# Altium integrated library Linear Technology Power Management PMIC Multifunction.IntLib: 360 symbols (part 8 of 42)
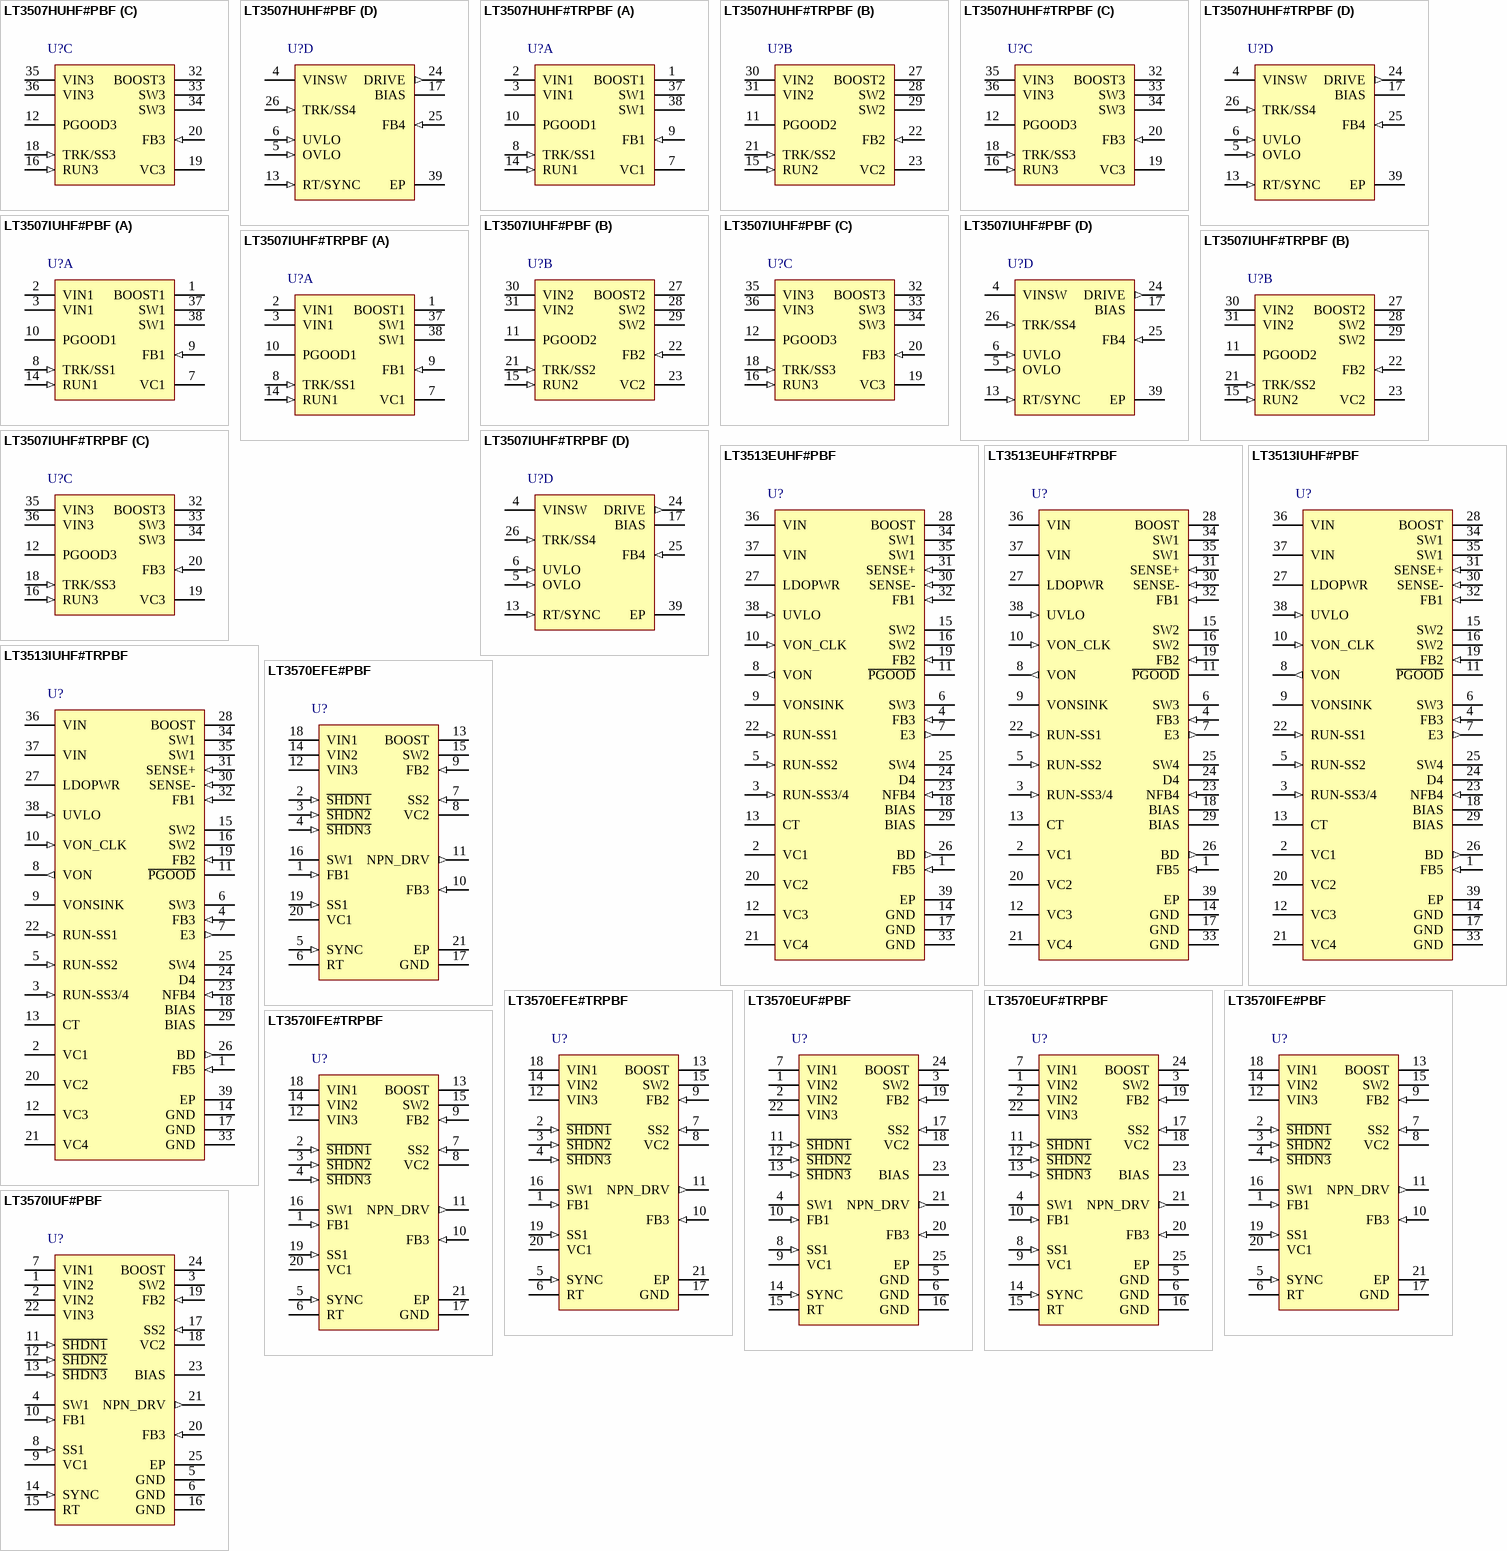
[diagram p25: symbols LT3507HUHF#PBF to LT3570IUF#PBF]

## LT3570EUF#PBF
designator U?
1.5 A Buck Converter, 1.5 A Boost Converter and LDO Controller, 2.5 to 36 V Vin, 24-pin QFN (UF-24), -40 to 125 degC, Pb-Free; Manufacturer: Linear Technology; PartNumber: LT3570EUF#PBF; Number of Outputs: 2; Vin Max(V): 36; Vin Min(V): 2.5; DatasheetVersion: Rev. B; PackageVersion: Rev. B, 02/2012; PackageReference: UF24; PackageDescription: 24-Pin Plastic QFN, Body 4 x 4 mm, Pitch 0.5 mm; Supplier 1: Digi-Key; Supplier Part Number 1: LT3570EUF#PBF-ND; Supplier 2: Newark; Supplier Part Number 2: 19P9369; RoHS: TRUE; Mounting Technology: Surface Mount; Code_JEDEC: MO-220; ComponentLink1Description: Manufacturer URL; ComponentLink1URL: http://www.linear.com/; ComponentLink2Description: Datasheet; ComponentLink2URL: http://cds.linear.com/docs/en/datasheet/3570fb.pdf; ComponentLink3Description: Package Specification; ComponentLink3URL: http://cds.linear.com/docs/en/packaging/%28UF24%29%20QFN%2005-08-1697%20Rev%20B.pdf
footprint LT-UF-24_N (QFN, 24-Leads, Body 4.1x4.1mm, Pitch 0.5mm, Thermal Pad 2.45x2.45mm, IPC Medium Density)
footprint LT-UF-24_L (QFN, 24-Leads, Body 4.1x4.1mm, Pitch 0.5mm, Thermal Pad 2.45x2.45mm, IPC High Density)
footprint LT-UF-24_M (QFN, 24-Leads, Body 4.1x4.1mm, Pitch 0.5mm, Thermal Pad 2.45x2.45mm, IPC Low Density)
pins: 1 VIN2 (power) "Input Voltage for the Buck Regulator. This pin also supplies the current to the internal circuitry of the LT3570. This pin must be locally bypassed with a capacitor.", 2 VIN2 (power) "Input Voltage for the Buck Regulator. This pin also supplies the current to the internal circuitry of the LT3570. This pin must be locally bypassed with a capacitor.", 3 SW2 (power) "Switch Node. This pin connects to the emitter of an internal NPN power switch. Connect a diode, inductor and boost capacitor to this pin to form the buck regulator.", 4 SW1 (power) "Switch Node. This pin connects to the collector of an internal NPN power switch. Connect a diode and inductor to this pin to form the boost regulator.", 5 GND (power) "Ground. The Exposed Pad of the package provides both electrical contact to ground and good thermal contact to the printed circuit board. The Exposed Pad must be soldered to the circuit board for proper operation.", 6 GND (power) "Ground. The Exposed Pad of the package provides both electrical contact to ground and good thermal contact to the printed circuit board. The Exposed Pad must be soldered to the circuit board for proper operation.", 7 VIN1 (power) "Input Voltage for the Boost Regulator. This pin supplies current to drive the boost NPN transistor of the LT3570. This pin must be locally bypassed with a capacitor.", 8 SS1 (in) "Soft-Start Pin. Place a soft-start capacitor here. Upon start-up, a current charges the capacitor to 2V. This pin ramps the reference voltage of the boost switcher.", 9 VC1 "Control Voltage and Compensation Pin for the Internal Error Amplifier. Connect a series RC from this pin to ground to compensate the switching regulator loop for the boost regulator.", 10 FB1 (in) "Feedback Pin. The LT3570 regulates this pin to 788mV. Connect the feedback resistors to this pin to set the output voltage for the boost switching regulator.", 11 ~{SHDN1} (in) "Shutdown Pin. Tie to 1.4V or more to enable the boost switcher. Tie all S\H\D\N\ pins to 0.3V or less to shutdown the part.", 12 ~{SHDN2} (in) "Shutdown Pin. Tie to 1.4V or more to enable the boost switcher. Tie all S\H\D\N\ pins to 0.3V or less to shutdown the part.", 13 ~{SHDN3} (in) "Shutdown Pin. Tie to 1.5V or more to enable the boost switcher. Tie all S\H\D\N\ pins to 0.3V or less to shutdown the part.", 14 SYNC (in) "Synchronization Pin. The SYNC pin is used to synchronize the internal oscillator to an external signal. The synchronizing range is equal to the initial operating frequency set by the RT pin up to 1.3 times the initial (See Datasheet)", 15 RT "Frequency Set Pin. Place a resistor to GND to set the internal frequency. The range of oscillation is 500kHz to 2MHz.", 16 GND (power) "Ground. The Exposed Pad of the package provides both electrical contact to ground and good thermal contact to the printed circuit board. The Exposed Pad must be soldered to the circuit board for proper operation.", 17 SS2 (in) "Soft-Start Pin. Place a soft-start capacitor here. Upon start-up, a current charges the capacitor to 2V. This pin ramps the reference voltage of the buck switcher", 18 VC2 "Control Voltage and Compensation Pin for the Internal Error Amplifier. Connect a series RC from this pin to ground to compensate the switching regulator loop for the buck regulator.", 19 FB2 (in) "Feedback Pin. The LT3570 regulates this pin to 788mV. Connect the feedback resistors to this pin to set the output voltage for the buck switching regulator.", 20 FB3 (in) "Feedback Pin. The LT3570 regulates this pin to 788mV. Connect the feedback resistors to this pin to set the output voltage for the LDO controller.", 21 NPN_DRV (out) "Base Drive for the External NPN. This pin provides a bias current to drive the base of the NPN. This base current is driven from the IN3 supply voltage.", 22 VIN3 (power) "Input Voltage for the NPN LDO. This pin supplies current to drive the base of the NPN. This pin must be locally bypassed with a capacitor.", 23 BIAS (power) "QFN Package Only. This pin supplies current to the internal circuitry of the LT3570 if greater than 2.5V. This pin must be locally bypassed with a capacitor.", 24 BOOST "Bias for the Base Drive of the NPN Switch for the Buck Regulator. This pin provides a bias voltage higher than VIN2. The voltage on this pin is charged up through an external Schottky diode.", 25 EP (power) "The Exposed Pad must be soldered to the circuit board for proper operation."

## LT3570EUF#TRPBF
designator U?
1.5 A Buck Converter, 1.5 A Boost Converter and LDO Controller, 2.5 to 36 V Vin, 24-pin QFN (UF-24), -40 to 125 degC, Pb-Free, Tape and Reel; Manufacturer: Linear Technology; PartNumber: LT3570EUF#TRPBF; Number of Outputs: 2; Vin Max(V): 36; Vin Min(V): 2.5; DatasheetVersion: Rev. B; PackageVersion: Rev. B, 02/2012; PackageReference: UF24; PackageDescription: 24-Pin Plastic QFN, Body 4 x 4 mm, Pitch 0.5 mm; Supplier 1: Digi-Key; Supplier Part Number 1: LT3570EUF#TRPBF-ND; Packing: Tape and Reel; RoHS: TRUE; Mounting Technology: Surface Mount; Code_JEDEC: MO-220; ComponentLink1Description: Manufacturer URL; ComponentLink1URL: http://www.linear.com/; ComponentLink2Description: Datasheet; ComponentLink2URL: http://cds.linear.com/docs/en/datasheet/3570fb.pdf; ComponentLink3Description: Package Specification; ComponentLink3URL: http://cds.linear.com/docs/en/packaging/%28UF24%29%20QFN%2005-08-1697%20Rev%20B.pdf
footprint LT-UF-24_N (QFN, 24-Leads, Body 4.1x4.1mm, Pitch 0.5mm, Thermal Pad 2.45x2.45mm, IPC Medium Density)
footprint LT-UF-24_L (QFN, 24-Leads, Body 4.1x4.1mm, Pitch 0.5mm, Thermal Pad 2.45x2.45mm, IPC High Density)
footprint LT-UF-24_M (QFN, 24-Leads, Body 4.1x4.1mm, Pitch 0.5mm, Thermal Pad 2.45x2.45mm, IPC Low Density)
pins: 1 VIN2 (power) "Input Voltage for the Buck Regulator. This pin also supplies the current to the internal circuitry of the LT3570. This pin must be locally bypassed with a capacitor.", 2 VIN2 (power) "Input Voltage for the Buck Regulator. This pin also supplies the current to the internal circuitry of the LT3570. This pin must be locally bypassed with a capacitor.", 3 SW2 (power) "Switch Node. This pin connects to the emitter of an internal NPN power switch. Connect a diode, inductor and boost capacitor to this pin to form the buck regulator.", 4 SW1 (power) "Switch Node. This pin connects to the collector of an internal NPN power switch. Connect a diode and inductor to this pin to form the boost regulator.", 5 GND (power) "Ground. The Exposed Pad of the package provides both electrical contact to ground and good thermal contact to the printed circuit board. The Exposed Pad must be soldered to the circuit board for proper operation.", 6 GND (power) "Ground. The Exposed Pad of the package provides both electrical contact to ground and good thermal contact to the printed circuit board. The Exposed Pad must be soldered to the circuit board for proper operation.", 7 VIN1 (power) "Input Voltage for the Boost Regulator. This pin supplies current to drive the boost NPN transistor of the LT3570. This pin must be locally bypassed with a capacitor.", 8 SS1 (in) "Soft-Start Pin. Place a soft-start capacitor here. Upon start-up, a current charges the capacitor to 2V. This pin ramps the reference voltage of the boost switcher.", 9 VC1 "Control Voltage and Compensation Pin for the Internal Error Amplifier. Connect a series RC from this pin to ground to compensate the switching regulator loop for the boost regulator.", 10 FB1 (in) "Feedback Pin. The LT3570 regulates this pin to 788mV. Connect the feedback resistors to this pin to set the output voltage for the boost switching regulator.", 11 ~{SHDN1} (in) "Shutdown Pin. Tie to 1.4V or more to enable the boost switcher. Tie all S\H\D\N\ pins to 0.3V or less to shutdown the part.", 12 ~{SHDN2} (in) "Shutdown Pin. Tie to 1.4V or more to enable the boost switcher. Tie all S\H\D\N\ pins to 0.3V or less to shutdown the part.", 13 ~{SHDN3} (in) "Shutdown Pin. Tie to 1.5V or more to enable the boost switcher. Tie all S\H\D\N\ pins to 0.3V or less to shutdown the part.", 14 SYNC (in) "Synchronization Pin. The SYNC pin is used to synchronize the internal oscillator to an external signal. The synchronizing range is equal to the initial operating frequency set by the RT pin up to 1.3 times the initial (See Datasheet)", 15 RT "Frequency Set Pin. Place a resistor to GND to set the internal frequency. The range of oscillation is 500kHz to 2MHz.", 16 GND (power) "Ground. The Exposed Pad of the package provides both electrical contact to ground and good thermal contact to the printed circuit board. The Exposed Pad must be soldered to the circuit board for proper operation.", 17 SS2 (in) "Soft-Start Pin. Place a soft-start capacitor here. Upon start-up, a current charges the capacitor to 2V. This pin ramps the reference voltage of the buck switcher", 18 VC2 "Control Voltage and Compensation Pin for the Internal Error Amplifier. Connect a series RC from this pin to ground to compensate the switching regulator loop for the buck regulator.", 19 FB2 (in) "Feedback Pin. The LT3570 regulates this pin to 788mV. Connect the feedback resistors to this pin to set the output voltage for the buck switching regulator.", 20 FB3 (in) "Feedback Pin. The LT3570 regulates this pin to 788mV. Connect the feedback resistors to this pin to set the output voltage for the LDO controller.", 21 NPN_DRV (out) "Base Drive for the External NPN. This pin provides a bias current to drive the base of the NPN. This base current is driven from the IN3 supply voltage.", 22 VIN3 (power) "Input Voltage for the NPN LDO. This pin supplies current to drive the base of the NPN. This pin must be locally bypassed with a capacitor.", 23 BIAS (power) "QFN Package Only. This pin supplies current to the internal circuitry of the LT3570 if greater than 2.5V. This pin must be locally bypassed with a capacitor.", 24 BOOST "Bias for the Base Drive of the NPN Switch for the Buck Regulator. This pin provides a bias voltage higher than VIN2. The voltage on this pin is charged up through an external Schottky diode.", 25 EP (power) "The Exposed Pad must be soldered to the circuit board for proper operation."

## LT3570IFE#PBF
designator U?
1.5 A Buck Converter, 1.5 A Boost Converter and LDO Controller, 2.5 to 36 V Vin, 20-pin SOP (FE-20-EPV-CB), -40 to 125 degC, Pb-Free; Manufacturer: Linear Technology; PartNumber: LT3570IFE#PBF; Number of Outputs: 2; Vin Max(V): 36; Vin Min(V): 2.5; DatasheetVersion: Rev. B; PackageVersion: Rev. I, 05/2011; PackageReference: FE-20; PackageDescription: 20-Pin Plastic TSSOP, Body 6.5 x 4.4 mm, Pitch 0.65 mm; Supplier 1: Digi-Key; Supplier Part Number 1: LT3570IFE#PBF-ND; Supplier 2: Farnell; Supplier Part Number 2: 2295473; Supplier 3: Newark; Supplier Part Number 3: 19P9371; RoHS: TRUE; Mounting Technology: Surface Mount; ComponentLink1Description: Manufacturer URL; ComponentLink1URL: http://www.linear.com/; ComponentLink2Description: Datasheet; ComponentLink2URL: http://cds.linear.com/docs/en/datasheet/3570fb.pdf; ComponentLink3Description: Package Specification; ComponentLink3URL: http://cds.linear.com/docs/en/packaging/05081663__J_FE20(CB).pdf
footprint LT-FE-20-EPV-CB_N (SOP, 20-Leads, Body 6.6x4.5mm, Pitch 0.65mm, Thermal Pad 3.86x2.74mm, IPC Medium Density)
footprint LT-FE-20-EPV-CB_L (SOP, 20-Leads, Body 6.6x4.5mm, Pitch 0.65mm, Thermal Pad 3.86x2.74mm, IPC High Density)
footprint LT-FE-20-EPV-CB_M (SOP, 20-Leads, Body 6.6x4.5mm, Pitch 0.65mm, Thermal Pad 3.86x2.74mm, IPC Low Density)
pins: 1 FB1 (in) "Feedback Pin. The LT3570 regulates this pin to 788mV. Connect the feedback resistors to this pin to set the output voltage for the boost switching regulator.", 2 ~{SHDN1} (in) "Shutdown Pin. Tie to 1.4V or more to enable the boost switcher. Tie all S\H\D\N\ pins to 0.3V or less to shutdown the part.", 3 ~{SHDN2} (in) "Shutdown Pin. Tie to 1.4V or more to enable the buck switcher. Tie all S\H\D\N\ pins to 0.3V or less to shutdown the part.", 4 ~{SHDN3} (in) "Shutdown Pin. Tie to 1.5V or more to enable the NPN LDO. Tie all S\H\D\N\ pins to 0.3V or less to shutdown the part.", 5 SYNC (in) "Synchronization Pin. The SYNC pin is used to synchronize the internal oscillator to an external signal. The synchronizing range is equal to the initial operating frequency set by the RT pin up to 1.3 times the initial (See Datasheet)", 6 RT "Frequency Set Pin. Place a resistor to GND to set the internal frequency. The range of oscillation is 500kHz to 2MHz.", 7 SS2 (in) "Soft-Start Pin. Place a soft-start capacitor here. Upon start-up, a current charges the capacitor to 2V. This pin ramps the reference voltage of the buck switcher.", 8 VC2 "Control Voltage and Compensation Pin for the Internal Error Amplifier. Connect a series RC from this pin to ground to compensate the switching regulator loop for the buck regulator.", 9 FB2 (in) "Feedback Pin. The LT3570 regulates this pin to 788mV. Connect the feedback resistors to this pin to set the output voltage for the buck switching regulator.", 10 FB3 (in) "Feedback Pin. The LT3570 regulates this pin to 788mV. Connect the feedback resistors to this pin to set the output voltage for the LDO controller.", 11 NPN_DRV (out) "Base Drive for the External NPN. This pin provides a bias current to drive the base of the NPN. This base current is driven from the IN3 supply voltage.", 12 VIN3 (power) "Input Voltage for the NPN LDO. This pin supplies current to drive the base of the NPN. This pin must be locally bypassed with a capacitor.", 13 BOOST "Bias for the Base Drive of the NPN Switch for the Buck Regulator. This pin provides a bias voltage higher than VIN2. The voltage on this pin is charged up through an external Schottky diode.", 14 VIN2 (power) "Input Voltage for the Buck Regulator. This pin also supplies the current to the internal circuitry of the LT3570. This pin must be locally bypassed with a capacitor.", 15 SW2 (power) "Switch Node. This pin connects to the emitter of an internal NPN power switch. Connect a diode, inductor and boost capacitor to this pin to form the buck regulator.", 16 SW1 (power) "Switch Node. This pin connects to the collector of an internal NPN power switch. Connect a diode and inductor to this pin to form the boost regulator.", 17 GND (power) "Ground. The Exposed Pad of the package provides both electrical contact to ground and good thermal contact to the printed circuit board. The Exposed Pad must be soldered to the circuit board for proper operation.", 18 VIN1 (power) "Input Voltage for the Boost Regulator. This pin supplies current to drive the boost NPN transistor of the LT3570. This pin must be locally bypassed with a capacitor.", 19 SS1 (in) "Soft-Start Pin. Place a soft-start capacitor here. Upon start-up, a current charges the capacitor to 2V. This pin ramps the reference voltage of the boost switcher.", 20 VC1 "Control Voltage and Compensation Pin for the Internal Error Amplifier. Connect a series RC from this pin to ground to compensate the switching regulator loop for the boost regulator.", 21 EP (power) "Ground. The Exposed Pad of the package provides both electrical contact to ground and good thermal contact to the printed circuit board. The Exposed Pad must be soldered to the circuit board for proper operation."

## LT3570IFE#TRPBF
designator U?
1.5 A Buck Converter, 1.5 A Boost Converter and LDO Controller, 2.5 to 36 V Vin, 20-pin SOP (FE-20-EPV-CB), -40 to 125 degC, Pb-Free, Tape and Reel; Manufacturer: Linear Technology; PartNumber: LT3570IFE#TRPBF; Number of Outputs: 2; Vin Max(V): 36; Vin Min(V): 2.5; DatasheetVersion: Rev. B; PackageVersion: Rev. I, 05/2011; PackageReference: FE-20; PackageDescription: 20-Pin Plastic TSSOP, Body 6.5 x 4.4 mm, Pitch 0.65 mm; Supplier 1: Digi-Key; Supplier Part Number 1: LT3570IFE#TRPBF-ND; Packing: Tape and Reel; RoHS: TRUE; Mounting Technology: Surface Mount; ComponentLink1Description: Manufacturer URL; ComponentLink1URL: http://www.linear.com/; ComponentLink2Description: Datasheet; ComponentLink2URL: http://cds.linear.com/docs/en/datasheet/3570fb.pdf; ComponentLink3Description: Package Specification; ComponentLink3URL: http://cds.linear.com/docs/en/packaging/05081663__J_FE20(CB).pdf
footprint LT-FE-20-EPV-CB_N (SOP, 20-Leads, Body 6.6x4.5mm, Pitch 0.65mm, Thermal Pad 3.86x2.74mm, IPC Medium Density)
footprint LT-FE-20-EPV-CB_L (SOP, 20-Leads, Body 6.6x4.5mm, Pitch 0.65mm, Thermal Pad 3.86x2.74mm, IPC High Density)
footprint LT-FE-20-EPV-CB_M (SOP, 20-Leads, Body 6.6x4.5mm, Pitch 0.65mm, Thermal Pad 3.86x2.74mm, IPC Low Density)
pins: 1 FB1 (in) "Feedback Pin. The LT3570 regulates this pin to 788mV. Connect the feedback resistors to this pin to set the output voltage for the boost switching regulator.", 2 ~{SHDN1} (in) "Shutdown Pin. Tie to 1.4V or more to enable the boost switcher. Tie all S\H\D\N\ pins to 0.3V or less to shutdown the part.", 3 ~{SHDN2} (in) "Shutdown Pin. Tie to 1.4V or more to enable the buck switcher. Tie all S\H\D\N\ pins to 0.3V or less to shutdown the part.", 4 ~{SHDN3} (in) "Shutdown Pin. Tie to 1.5V or more to enable the NPN LDO. Tie all S\H\D\N\ pins to 0.3V or less to shutdown the part.", 5 SYNC (in) "Synchronization Pin. The SYNC pin is used to synchronize the internal oscillator to an external signal. The synchronizing range is equal to the initial operating frequency set by the RT pin up to 1.3 times the initial (See Datasheet)", 6 RT "Frequency Set Pin. Place a resistor to GND to set the internal frequency. The range of oscillation is 500kHz to 2MHz.", 7 SS2 (in) "Soft-Start Pin. Place a soft-start capacitor here. Upon start-up, a current charges the capacitor to 2V. This pin ramps the reference voltage of the buck switcher.", 8 VC2 "Control Voltage and Compensation Pin for the Internal Error Amplifier. Connect a series RC from this pin to ground to compensate the switching regulator loop for the buck regulator.", 9 FB2 (in) "Feedback Pin. The LT3570 regulates this pin to 788mV. Connect the feedback resistors to this pin to set the output voltage for the buck switching regulator.", 10 FB3 (in) "Feedback Pin. The LT3570 regulates this pin to 788mV. Connect the feedback resistors to this pin to set the output voltage for the LDO controller.", 11 NPN_DRV (out) "Base Drive for the External NPN. This pin provides a bias current to drive the base of the NPN. This base current is driven from the IN3 supply voltage.", 12 VIN3 (power) "Input Voltage for the NPN LDO. This pin supplies current to drive the base of the NPN. This pin must be locally bypassed with a capacitor.", 13 BOOST "Bias for the Base Drive of the NPN Switch for the Buck Regulator. This pin provides a bias voltage higher than VIN2. The voltage on this pin is charged up through an external Schottky diode.", 14 VIN2 (power) "Input Voltage for the Buck Regulator. This pin also supplies the current to the internal circuitry of the LT3570. This pin must be locally bypassed with a capacitor.", 15 SW2 (power) "Switch Node. This pin connects to the emitter of an internal NPN power switch. Connect a diode, inductor and boost capacitor to this pin to form the buck regulator.", 16 SW1 (power) "Switch Node. This pin connects to the collector of an internal NPN power switch. Connect a diode and inductor to this pin to form the boost regulator.", 17 GND (power) "Ground. The Exposed Pad of the package provides both electrical contact to ground and good thermal contact to the printed circuit board. The Exposed Pad must be soldered to the circuit board for proper operation.", 18 VIN1 (power) "Input Voltage for the Boost Regulator. This pin supplies current to drive the boost NPN transistor of the LT3570. This pin must be locally bypassed with a capacitor.", 19 SS1 (in) "Soft-Start Pin. Place a soft-start capacitor here. Upon start-up, a current charges the capacitor to 2V. This pin ramps the reference voltage of the boost switcher.", 20 VC1 "Control Voltage and Compensation Pin for the Internal Error Amplifier. Connect a series RC from this pin to ground to compensate the switching regulator loop for the boost regulator.", 21 EP (power) "Ground. The Exposed Pad of the package provides both electrical contact to ground and good thermal contact to the printed circuit board. The Exposed Pad must be soldered to the circuit board for proper operation."

## LT3570IUF#PBF
designator U?
1.5 A Buck Converter, 1.5 A Boost Converter and LDO Controller, 2.5 to 36 V Vin, 24-pin QFN (UF-24), -40 to 125 degC, Pb-Free; Manufacturer: Linear Technology; PartNumber: LT3570IUF#PBF; Number of Outputs: 2; Vin Max(V): 36; Vin Min(V): 2.5; DatasheetVersion: Rev. B; PackageVersion: Rev. B, 02/2012; PackageReference: UF24; PackageDescription: 24-Pin Plastic QFN, Body 4 x 4 mm, Pitch 0.5 mm; Supplier 1: Digi-Key; Supplier Part Number 1: LT3570IUF#PBF-ND; RoHS: TRUE; Mounting Technology: Surface Mount; Code_JEDEC: MO-220; ComponentLink1Description: Manufacturer URL; ComponentLink1URL: http://www.linear.com/; ComponentLink2Description: Datasheet; ComponentLink2URL: http://cds.linear.com/docs/en/datasheet/3570fb.pdf; ComponentLink3Description: Package Specification; ComponentLink3URL: http://cds.linear.com/docs/en/packaging/%28UF24%29%20QFN%2005-08-1697%20Rev%20B.pdf
footprint LT-UF-24_N (QFN, 24-Leads, Body 4.1x4.1mm, Pitch 0.5mm, Thermal Pad 2.45x2.45mm, IPC Medium Density)
footprint LT-UF-24_L (QFN, 24-Leads, Body 4.1x4.1mm, Pitch 0.5mm, Thermal Pad 2.45x2.45mm, IPC High Density)
footprint LT-UF-24_M (QFN, 24-Leads, Body 4.1x4.1mm, Pitch 0.5mm, Thermal Pad 2.45x2.45mm, IPC Low Density)
pins: 1 VIN2 (power) "Input Voltage for the Buck Regulator. This pin also supplies the current to the internal circuitry of the LT3570. This pin must be locally bypassed with a capacitor.", 2 VIN2 (power) "Input Voltage for the Buck Regulator. This pin also supplies the current to the internal circuitry of the LT3570. This pin must be locally bypassed with a capacitor.", 3 SW2 (power) "Switch Node. This pin connects to the emitter of an internal NPN power switch. Connect a diode, inductor and boost capacitor to this pin to form the buck regulator.", 4 SW1 (power) "Switch Node. This pin connects to the collector of an internal NPN power switch. Connect a diode and inductor to this pin to form the boost regulator.", 5 GND (power) "Ground. The Exposed Pad of the package provides both electrical contact to ground and good thermal contact to the printed circuit board. The Exposed Pad must be soldered to the circuit board for proper operation.", 6 GND (power) "Ground. The Exposed Pad of the package provides both electrical contact to ground and good thermal contact to the printed circuit board. The Exposed Pad must be soldered to the circuit board for proper operation.", 7 VIN1 (power) "Input Voltage for the Boost Regulator. This pin supplies current to drive the boost NPN transistor of the LT3570. This pin must be locally bypassed with a capacitor.", 8 SS1 (in) "Soft-Start Pin. Place a soft-start capacitor here. Upon start-up, a current charges the capacitor to 2V. This pin ramps the reference voltage of the boost switcher.", 9 VC1 "Control Voltage and Compensation Pin for the Internal Error Amplifier. Connect a series RC from this pin to ground to compensate the switching regulator loop for the boost regulator.", 10 FB1 (in) "Feedback Pin. The LT3570 regulates this pin to 788mV. Connect the feedback resistors to this pin to set the output voltage for the boost switching regulator.", 11 ~{SHDN1} (in) "Shutdown Pin. Tie to 1.4V or more to enable the boost switcher. Tie all S\H\D\N\ pins to 0.3V or less to shutdown the part.", 12 ~{SHDN2} (in) "Shutdown Pin. Tie to 1.4V or more to enable the boost switcher. Tie all S\H\D\N\ pins to 0.3V or less to shutdown the part.", 13 ~{SHDN3} (in) "Shutdown Pin. Tie to 1.5V or more to enable the boost switcher. Tie all S\H\D\N\ pins to 0.3V or less to shutdown the part.", 14 SYNC (in) "Synchronization Pin. The SYNC pin is used to synchronize the internal oscillator to an external signal. The synchronizing range is equal to the initial operating frequency set by the RT pin up to 1.3 times the initial (See Datasheet)", 15 RT "Frequency Set Pin. Place a resistor to GND to set the internal frequency. The range of oscillation is 500kHz to 2MHz.", 16 GND (power) "Ground. The Exposed Pad of the package provides both electrical contact to ground and good thermal contact to the printed circuit board. The Exposed Pad must be soldered to the circuit board for proper operation.", 17 SS2 (in) "Soft-Start Pin. Place a soft-start capacitor here. Upon start-up, a current charges the capacitor to 2V. This pin ramps the reference voltage of the buck switcher", 18 VC2 "Control Voltage and Compensation Pin for the Internal Error Amplifier. Connect a series RC from this pin to ground to compensate the switching regulator loop for the buck regulator.", 19 FB2 (in) "Feedback Pin. The LT3570 regulates this pin to 788mV. Connect the feedback resistors to this pin to set the output voltage for the buck switching regulator.", 20 FB3 (in) "Feedback Pin. The LT3570 regulates this pin to 788mV. Connect the feedback resistors to this pin to set the output voltage for the LDO controller.", 21 NPN_DRV (out) "Base Drive for the External NPN. This pin provides a bias current to drive the base of the NPN. This base current is driven from the IN3 supply voltage.", 22 VIN3 (power) "Input Voltage for the NPN LDO. This pin supplies current to drive the base of the NPN. This pin must be locally bypassed with a capacitor.", 23 BIAS (power) "QFN Package Only. This pin supplies current to the internal circuitry of the LT3570 if greater than 2.5V. This pin must be locally bypassed with a capacitor.", 24 BOOST "Bias for the Base Drive of the NPN Switch for the Buck Regulator. This pin provides a bias voltage higher than VIN2. The voltage on this pin is charged up through an external Schottky diode.", 25 EP (power) "The Exposed Pad must be soldered to the circuit board for proper operation."

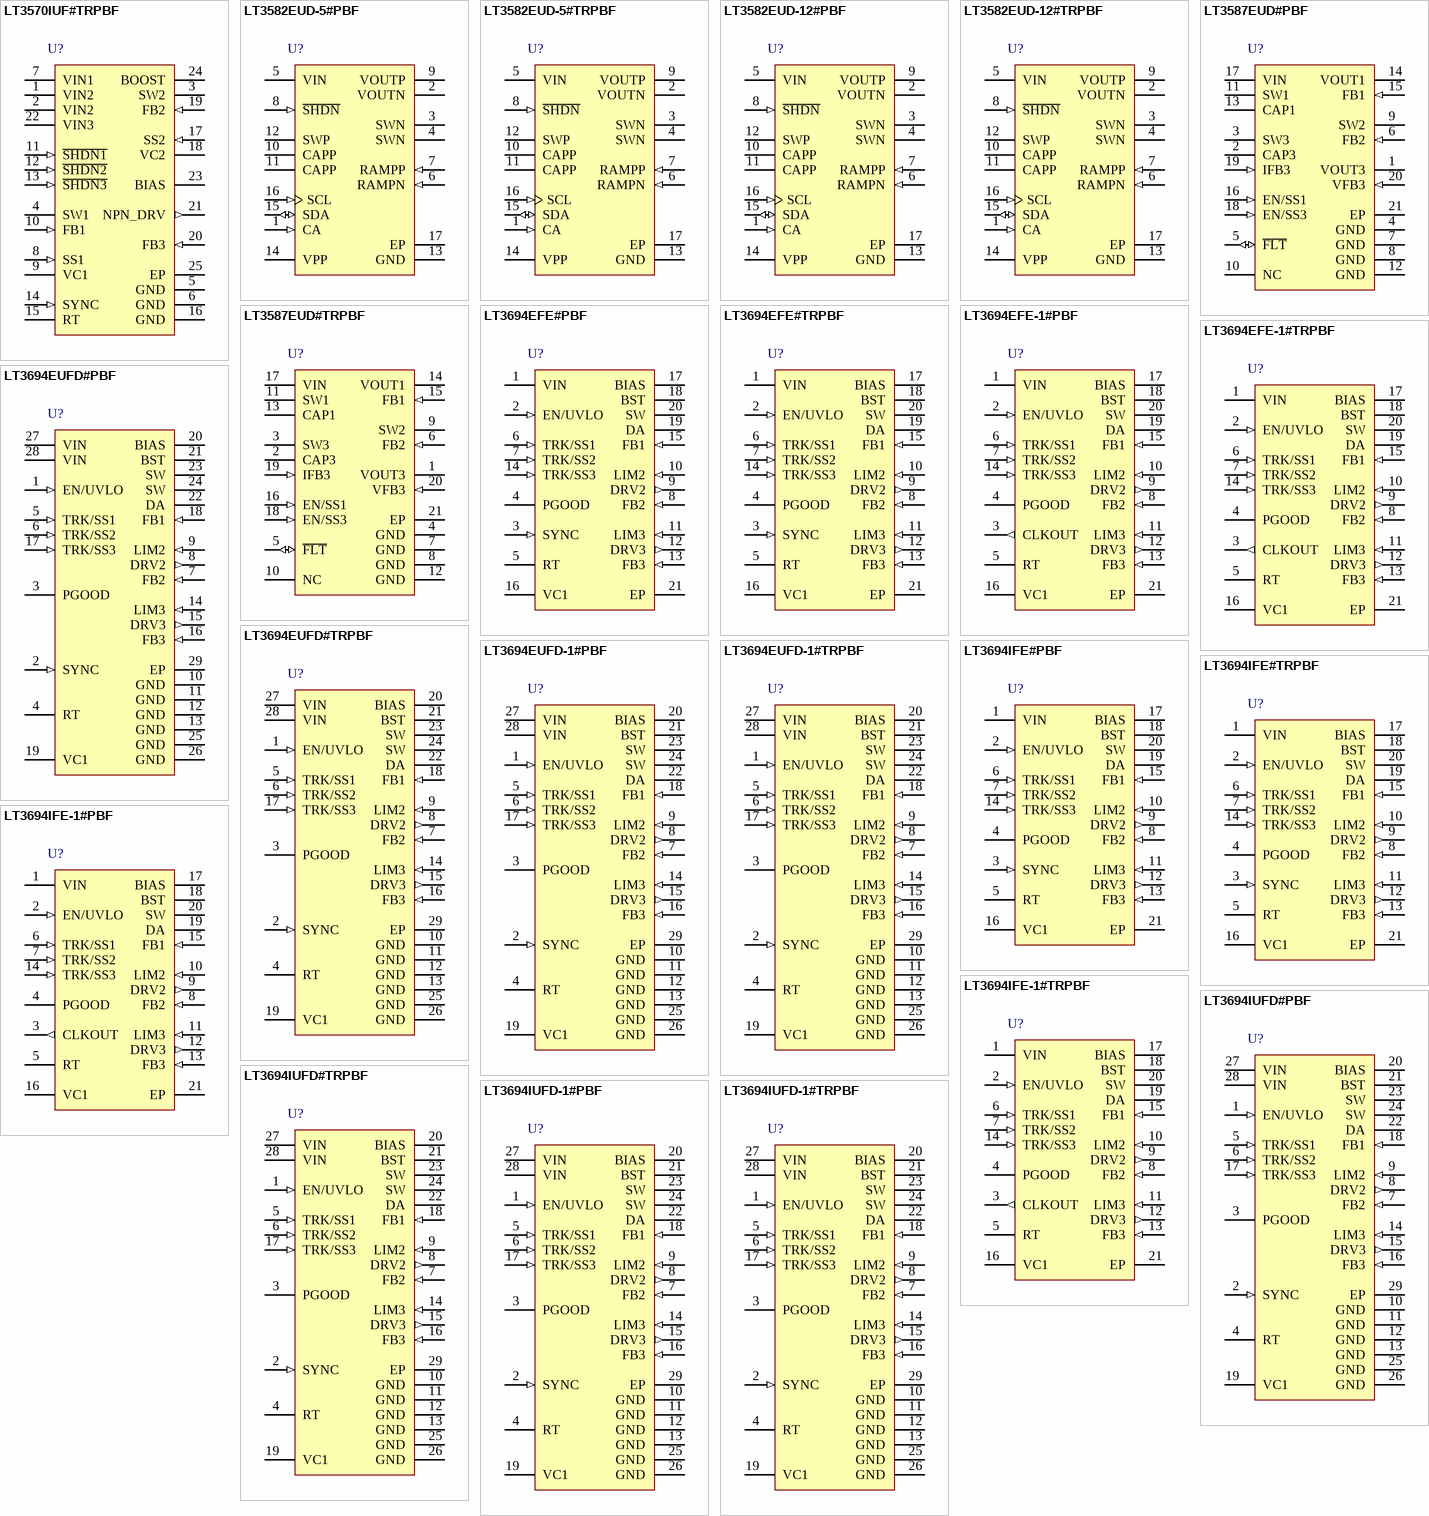
[diagram p4: symbols LT3570IUF#TRPBF to LT3694IUFD-1#TRPBF]

## LT3570IUF#TRPBF
designator U?
1.5 A Buck Converter, 1.5 A Boost Converter and LDO Controller, 2.5 to 36 V Vin, 24-pin QFN (UF-24), -40 to 125 degC, Pb-Free, Tape and Reel; Manufacturer: Linear Technology; PartNumber: LT3570IUF#TRPBF; Number of Outputs: 2; Vin Max(V): 36; Vin Min(V): 2.5; DatasheetVersion: Rev. B; PackageVersion: Rev. B, 02/2012; PackageReference: UF24; PackageDescription: 24-Pin Plastic QFN, Body 4 x 4 mm, Pitch 0.5 mm; Supplier 1: Digi-Key; Supplier Part Number 1: LT3570IUF#TRPBF-ND; Packing: Tape and Reel; RoHS: TRUE; Mounting Technology: Surface Mount; Code_JEDEC: MO-220; ComponentLink1Description: Manufacturer URL; ComponentLink1URL: http://www.linear.com/; ComponentLink2Description: Datasheet; ComponentLink2URL: http://cds.linear.com/docs/en/datasheet/3570fb.pdf; ComponentLink3Description: Package Specification; ComponentLink3URL: http://cds.linear.com/docs/en/packaging/%28UF24%29%20QFN%2005-08-1697%20Rev%20B.pdf
footprint LT-UF-24_N (QFN, 24-Leads, Body 4.1x4.1mm, Pitch 0.5mm, Thermal Pad 2.45x2.45mm, IPC Medium Density)
footprint LT-UF-24_L (QFN, 24-Leads, Body 4.1x4.1mm, Pitch 0.5mm, Thermal Pad 2.45x2.45mm, IPC High Density)
footprint LT-UF-24_M (QFN, 24-Leads, Body 4.1x4.1mm, Pitch 0.5mm, Thermal Pad 2.45x2.45mm, IPC Low Density)
pins: 1 VIN2 (power) "Input Voltage for the Buck Regulator. This pin also supplies the current to the internal circuitry of the LT3570. This pin must be locally bypassed with a capacitor.", 2 VIN2 (power) "Input Voltage for the Buck Regulator. This pin also supplies the current to the internal circuitry of the LT3570. This pin must be locally bypassed with a capacitor.", 3 SW2 (power) "Switch Node. This pin connects to the emitter of an internal NPN power switch. Connect a diode, inductor and boost capacitor to this pin to form the buck regulator.", 4 SW1 (power) "Switch Node. This pin connects to the collector of an internal NPN power switch. Connect a diode and inductor to this pin to form the boost regulator.", 5 GND (power) "Ground. The Exposed Pad of the package provides both electrical contact to ground and good thermal contact to the printed circuit board. The Exposed Pad must be soldered to the circuit board for proper operation.", 6 GND (power) "Ground. The Exposed Pad of the package provides both electrical contact to ground and good thermal contact to the printed circuit board. The Exposed Pad must be soldered to the circuit board for proper operation.", 7 VIN1 (power) "Input Voltage for the Boost Regulator. This pin supplies current to drive the boost NPN transistor of the LT3570. This pin must be locally bypassed with a capacitor.", 8 SS1 (in) "Soft-Start Pin. Place a soft-start capacitor here. Upon start-up, a current charges the capacitor to 2V. This pin ramps the reference voltage of the boost switcher.", 9 VC1 "Control Voltage and Compensation Pin for the Internal Error Amplifier. Connect a series RC from this pin to ground to compensate the switching regulator loop for the boost regulator.", 10 FB1 (in) "Feedback Pin. The LT3570 regulates this pin to 788mV. Connect the feedback resistors to this pin to set the output voltage for the boost switching regulator.", 11 ~{SHDN1} (in) "Shutdown Pin. Tie to 1.4V or more to enable the boost switcher. Tie all S\H\D\N\ pins to 0.3V or less to shutdown the part.", 12 ~{SHDN2} (in) "Shutdown Pin. Tie to 1.4V or more to enable the boost switcher. Tie all S\H\D\N\ pins to 0.3V or less to shutdown the part.", 13 ~{SHDN3} (in) "Shutdown Pin. Tie to 1.5V or more to enable the boost switcher. Tie all S\H\D\N\ pins to 0.3V or less to shutdown the part.", 14 SYNC (in) "Synchronization Pin. The SYNC pin is used to synchronize the internal oscillator to an external signal. The synchronizing range is equal to the initial operating frequency set by the RT pin up to 1.3 times the initial (See Datasheet)", 15 RT "Frequency Set Pin. Place a resistor to GND to set the internal frequency. The range of oscillation is 500kHz to 2MHz.", 16 GND (power) "Ground. The Exposed Pad of the package provides both electrical contact to ground and good thermal contact to the printed circuit board. The Exposed Pad must be soldered to the circuit board for proper operation.", 17 SS2 (in) "Soft-Start Pin. Place a soft-start capacitor here. Upon start-up, a current charges the capacitor to 2V. This pin ramps the reference voltage of the buck switcher", 18 VC2 "Control Voltage and Compensation Pin for the Internal Error Amplifier. Connect a series RC from this pin to ground to compensate the switching regulator loop for the buck regulator.", 19 FB2 (in) "Feedback Pin. The LT3570 regulates this pin to 788mV. Connect the feedback resistors to this pin to set the output voltage for the buck switching regulator.", 20 FB3 (in) "Feedback Pin. The LT3570 regulates this pin to 788mV. Connect the feedback resistors to this pin to set the output voltage for the LDO controller.", 21 NPN_DRV (out) "Base Drive for the External NPN. This pin provides a bias current to drive the base of the NPN. This base current is driven from the IN3 supply voltage.", 22 VIN3 (power) "Input Voltage for the NPN LDO. This pin supplies current to drive the base of the NPN. This pin must be locally bypassed with a capacitor.", 23 BIAS (power) "QFN Package Only. This pin supplies current to the internal circuitry of the LT3570 if greater than 2.5V. This pin must be locally bypassed with a capacitor.", 24 BOOST "Bias for the Base Drive of the NPN Switch for the Buck Regulator. This pin provides a bias voltage higher than VIN2. The voltage on this pin is charged up through an external Schottky diode.", 25 EP (power) "The Exposed Pad must be soldered to the circuit board for proper operation."

## LT3582EUD-5#PBF
designator U?
I2C Programmable Boost and Single Inductor Inverting DC/DC Converter with OTP, 2.475 to 5.5 V Vin, 16-pin QFN (UD-16), -40 to 125 degC, Pb-Free; Manufacturer: Linear Technology; PartNumber: LT3582EUD-5#PBF; Number of Outputs: 2; Vin Max(V): 5.5; Vin Min(V): 2.475; DatasheetVersion: Rev. B; PackageVersion: Jun-10; PackageReference: UD-16; PackageDescription: 16-Pin Plastic QFN, Body 3 x 3 mm, Pitch 0.5 mm; Supplier 1: Digi-Key; Supplier Part Number 1: LT3582EUD-5#PBF-ND; Supplier 2: Farnell; Supplier Part Number 2: 1761438; Supplier 3: Newark; Supplier Part Number 3: 24R3352; RoHS: TRUE; Mounting Technology: Surface Mount; Code_JEDEC: MO-220; ComponentLink1Description: Manufacturer URL; ComponentLink1URL: http://www.linear.com/; ComponentLink2Description: Datasheet; ComponentLink2URL: http://cds.linear.com/docs/en/datasheet/3582512fb.pdf; ComponentLink3Description: Package Specification; ComponentLink3URL: http://cds.linear.com/docs/en/packaging/QFN_16_05-08-1691.pdf
footprint LT-UD-16_N (QFN, 16-Leads, Body 3x3mm, Pitch 0.5mm, Thermal Pad 1.45x1.45mm, IPC Medium Density)
footprint LT-UD-16_L (QFN, 16-Leads, Body 3x3mm, Pitch 0.5mm, Thermal Pad 1.45x1.45mm, IPC High Density)
footprint LT-UD-16_M (QFN, 16-Leads, Body 3x3mm, Pitch 0.5mm, Thermal Pad 1.45x1.45mm, IPC Low Density)
pins: 1 CA (in) "I2C Address Select Pin. Tie this pin to VIN to set the 7-bit address to 0110 001. Tie to GND for 1000 101.", 2 VOUTN (power) "Negative Output Voltage Pin. When the converter is operating, this pin is regulated to the programmed negative output voltage. Place a ceramic capacitor from this pin to GND.", 3 SWN (power) "Negative Switching Node for the Inverting Converter. This is the drain of the internal PMOS power switch. Connect one end of the Inverting inductor to these pins. Keep the trace area on these pins as small as possible.", 4 SWN (power) "Negative Switching Node for the Inverting Converter. This is the drain of the internal PMOS power switch. Connect one end of the Inverting inductor to these pins. Keep the trace area on these pins as small as possible.", 5 VIN (power) "Input Supply Pin and Source of the PMOS Power Switch. This pin must be bypassed locally with a ceramic capacitor. The operating voltage range of this pin is 2.55V to 5.5V.", 6 RAMPN (in) "Soft-Start Ramp Pin for the Inverting Converter. Place a capacitor from this pin to GND. A programmable current of 1uA to 8uA (LT3582) or 1uA (LT3582-5/LT3582-12) charges this pin during start-up, limiting the ramp rate of (See Datasheet)", 7 RAMPP (in) "Soft-Start Ramp Pin for the Boost Converter. Place a capacitor from this pin to GND. A programmable current of 1uA to 8uA (LT3582) or 1uA (LT3582-5/LT3582-12) charges this pin during start-up, limiting the ramp rate of VOUTP.(See Datasheet)", 8 ~{SHDN} (in) "Shutdown Pin. Drive this pin to 1.1V or higher to enable the part. Drive to 0.3V or lower to shut down. Includes an integrated 222k pull-down resistor.", 9 VOUTP (power) "Output of the Boost Converter Output Disconnect Circuit. A ceramic capacitor should be placed from this node to GND. During shutdown, this pin is disconnected from the Boost network which allows this pin to discharge to GND, (See Datasheet)", 10 CAPP "Connect the Boost output capacitor from these pins to GND. During shutdown, the voltage on these pins will remain close to the input voltage due to the path through the Boost inductor and Schottky. During normal operation, (See Datasheet)", 11 CAPP "Connect the Boost output capacitor from these pins to GND. During shutdown, the voltage on these pins will remain close to the input voltage due to the path through the Boost inductor and Schottky. During normal operation, (See Datasheet)", 12 SWP (power) "Positive Switching Node for the Boost Converter. This is the drain of the internal NMOS power switch. Connect one end of the Boost inductor to this pin. Keep the trace area on this pin as small as possible.", 13 GND (power) "Ground Pin. Tie to a local ground plane. Proper PCB layout is required to achieve advertised performance; see the Applications Information section for more information.", 14 VPP (power) "Programming Voltage Pin. Drive this pin to 13-15V when programming the OTP memory. Float otherwise. A bypass capacitor should be placed from this node to GND if VPP is used for programming. If VPP falls below 13V during OTP (See Datasheet)", 15 SDA (io) "I2C Bidirectional Data Pin. Tie to GND or VIN if unused", 16 SCL (in) "I2C Clock Pin. Tie to GND or VIN if unused.", 17 EP (power) "Ground Pin. Tie to a local ground plane. Proper PCB layout is required to achieve advertised performance; see the Applications Information section for more information."

## LT3582EUD-5#TRPBF
designator U?
I2C Programmable Boost and Single Inductor Inverting DC/DC Converter with OTP, 2.475 to 5.5 V Vin, 16-pin QFN (UD-16), -40 to 125 degC, Pb-Free, Tape and Reel; Manufacturer: Linear Technology; PartNumber: LT3582EUD-5#TRPBF; Number of Outputs: 2; Vin Max(V): 5.5; Vin Min(V): 2.475; DatasheetVersion: Rev. B; PackageVersion: Jun-10; PackageReference: UD-16; PackageDescription: 16-Pin Plastic QFN, Body 3 x 3 mm, Pitch 0.5 mm; Supplier 1: Digi-Key; Supplier Part Number 1: LT3582EUD-5#TRPBF-ND; Packing: Tape and Reel; RoHS: TRUE; Mounting Technology: Surface Mount; Code_JEDEC: MO-220; ComponentLink1Description: Manufacturer URL; ComponentLink1URL: http://www.linear.com/; ComponentLink2Description: Datasheet; ComponentLink2URL: http://cds.linear.com/docs/en/datasheet/3582512fb.pdf; ComponentLink3Description: Package Specification; ComponentLink3URL: http://cds.linear.com/docs/en/packaging/QFN_16_05-08-1691.pdf
footprint LT-UD-16_N (QFN, 16-Leads, Body 3x3mm, Pitch 0.5mm, Thermal Pad 1.45x1.45mm, IPC Medium Density)
footprint LT-UD-16_L (QFN, 16-Leads, Body 3x3mm, Pitch 0.5mm, Thermal Pad 1.45x1.45mm, IPC High Density)
footprint LT-UD-16_M (QFN, 16-Leads, Body 3x3mm, Pitch 0.5mm, Thermal Pad 1.45x1.45mm, IPC Low Density)
pins: 1 CA (in) "I2C Address Select Pin. Tie this pin to VIN to set the 7-bit address to 0110 001. Tie to GND for 1000 101.", 2 VOUTN (power) "Negative Output Voltage Pin. When the converter is operating, this pin is regulated to the programmed negative output voltage. Place a ceramic capacitor from this pin to GND.", 3 SWN (power) "Negative Switching Node for the Inverting Converter. This is the drain of the internal PMOS power switch. Connect one end of the Inverting inductor to these pins. Keep the trace area on these pins as small as possible.", 4 SWN (power) "Negative Switching Node for the Inverting Converter. This is the drain of the internal PMOS power switch. Connect one end of the Inverting inductor to these pins. Keep the trace area on these pins as small as possible.", 5 VIN (power) "Input Supply Pin and Source of the PMOS Power Switch. This pin must be bypassed locally with a ceramic capacitor. The operating voltage range of this pin is 2.55V to 5.5V.", 6 RAMPN (in) "Soft-Start Ramp Pin for the Inverting Converter. Place a capacitor from this pin to GND. A programmable current of 1uA to 8uA (LT3582) or 1uA (LT3582-5/LT3582-12) charges this pin during start-up, limiting the ramp rate of (See Datasheet)", 7 RAMPP (in) "Soft-Start Ramp Pin for the Boost Converter. Place a capacitor from this pin to GND. A programmable current of 1uA to 8uA (LT3582) or 1uA (LT3582-5/LT3582-12) charges this pin during start-up, limiting the ramp rate of VOUTP.(See Datasheet)", 8 ~{SHDN} (in) "Shutdown Pin. Drive this pin to 1.1V or higher to enable the part. Drive to 0.3V or lower to shut down. Includes an integrated 222k pull-down resistor.", 9 VOUTP (power) "Output of the Boost Converter Output Disconnect Circuit. A ceramic capacitor should be placed from this node to GND. During shutdown, this pin is disconnected from the Boost network which allows this pin to discharge to GND, (See Datasheet)", 10 CAPP "Connect the Boost output capacitor from these pins to GND. During shutdown, the voltage on these pins will remain close to the input voltage due to the path through the Boost inductor and Schottky. During normal operation, (See Datasheet)", 11 CAPP "Connect the Boost output capacitor from these pins to GND. During shutdown, the voltage on these pins will remain close to the input voltage due to the path through the Boost inductor and Schottky. During normal operation, (See Datasheet)", 12 SWP (power) "Positive Switching Node for the Boost Converter. This is the drain of the internal NMOS power switch. Connect one end of the Boost inductor to this pin. Keep the trace area on this pin as small as possible.", 13 GND (power) "Ground Pin. Tie to a local ground plane. Proper PCB layout is required to achieve advertised performance; see the Applications Information section for more information.", 14 VPP (power) "Programming Voltage Pin. Drive this pin to 13-15V when programming the OTP memory. Float otherwise. A bypass capacitor should be placed from this node to GND if VPP is used for programming. If VPP falls below 13V during OTP (See Datasheet)", 15 SDA (io) "I2C Bidirectional Data Pin. Tie to GND or VIN if unused", 16 SCL (in) "I2C Clock Pin. Tie to GND or VIN if unused.", 17 EP (power) "Ground Pin. Tie to a local ground plane. Proper PCB layout is required to achieve advertised performance; see the Applications Information section for more information."

## LT3582EUD-12#PBF
designator U?
I2C Programmable Boost and Single Inductor Inverting DC/DC Converter with OTP, 2.475 to 5.5 V Vin, 16-pin QFN (UD-16), -40 to 125 degC, Pb-Free; Manufacturer: Linear Technology; PartNumber: LT3582EUD-12#PBF; Number of Outputs: 2; Vin Max(V): 5.5; Vin Min(V): 2.475; DatasheetVersion: Rev. B; PackageVersion: Jun-10; PackageReference: UD-16; PackageDescription: 16-Pin Plastic QFN, Body 3 x 3 mm, Pitch 0.5 mm; Supplier 1: Digi-Key; Supplier Part Number 1: LT3582EUD-12#PBF-ND; Supplier 2: Farnell; Supplier Part Number 2: 1761437; Supplier 3: Newark; Supplier Part Number 3: 24R3351; RoHS: TRUE; Mounting Technology: Surface Mount; Code_JEDEC: MO-220; ComponentLink1Description: Manufacturer URL; ComponentLink1URL: http://www.linear.com/; ComponentLink2Description: Datasheet; ComponentLink2URL: linear.com/docs/en/datasheet/3582512fb.pdf; ComponentLink3Description: Package Specification; ComponentLink3URL: http://cds.linear.com/docs/en/packaging/QFN_16_05-08-1691.pdf
footprint LT-UD-16_N (QFN, 16-Leads, Body 3x3mm, Pitch 0.5mm, Thermal Pad 1.45x1.45mm, IPC Medium Density)
footprint LT-UD-16_L (QFN, 16-Leads, Body 3x3mm, Pitch 0.5mm, Thermal Pad 1.45x1.45mm, IPC High Density)
footprint LT-UD-16_M (QFN, 16-Leads, Body 3x3mm, Pitch 0.5mm, Thermal Pad 1.45x1.45mm, IPC Low Density)
pins: 1 CA (in) "I2C Address Select Pin. Tie this pin to VIN to set the 7-bit address to 0110 001. Tie to GND for 1000 101.", 2 VOUTN (power) "Negative Output Voltage Pin. When the converter is operating, this pin is regulated to the programmed negative output voltage. Place a ceramic capacitor from this pin to GND.", 3 SWN (power) "Negative Switching Node for the Inverting Converter. This is the drain of the internal PMOS power switch. Connect one end of the Inverting inductor to these pins. Keep the trace area on these pins as small as possible.", 4 SWN (power) "Negative Switching Node for the Inverting Converter. This is the drain of the internal PMOS power switch. Connect one end of the Inverting inductor to these pins. Keep the trace area on these pins as small as possible.", 5 VIN (power) "Input Supply Pin and Source of the PMOS Power Switch. This pin must be bypassed locally with a ceramic capacitor. The operating voltage range of this pin is 2.55V to 5.5V.", 6 RAMPN (in) "Soft-Start Ramp Pin for the Inverting Converter. Place a capacitor from this pin to GND. A programmable current of 1uA to 8uA (LT3582) or 1uA (LT3582-5/LT3582-12) charges this pin during start-up, limiting the ramp rate of (See Datasheet)", 7 RAMPP (in) "Soft-Start Ramp Pin for the Boost Converter. Place a capacitor from this pin to GND. A programmable current of 1uA to 8uA (LT3582) or 1uA (LT3582-5/LT3582-12) charges this pin during start-up, limiting the ramp rate of VOUTP.(See Datasheet)", 8 ~{SHDN} (in) "Shutdown Pin. Drive this pin to 1.1V or higher to enable the part. Drive to 0.3V or lower to shut down. Includes an integrated 222k pull-down resistor.", 9 VOUTP (power) "Output of the Boost Converter Output Disconnect Circuit. A ceramic capacitor should be placed from this node to GND. During shutdown, this pin is disconnected from the Boost network which allows this pin to discharge to GND, (See Datasheet)", 10 CAPP "Connect the Boost output capacitor from these pins to GND. During shutdown, the voltage on these pins will remain close to the input voltage due to the path through the Boost inductor and Schottky. During normal operation, (See Datasheet)", 11 CAPP "Connect the Boost output capacitor from these pins to GND. During shutdown, the voltage on these pins will remain close to the input voltage due to the path through the Boost inductor and Schottky. During normal operation, (See Datasheet)", 12 SWP (power) "Positive Switching Node for the Boost Converter. This is the drain of the internal NMOS power switch. Connect one end of the Boost inductor to this pin. Keep the trace area on this pin as small as possible.", 13 GND (power) "Ground Pin. Tie to a local ground plane. Proper PCB layout is required to achieve advertised performance; see the Applications Information section for more information.", 14 VPP (power) "Programming Voltage Pin. Drive this pin to 13-15V when programming the OTP memory. Float otherwise. A bypass capacitor should be placed from this node to GND if VPP is used for programming. If VPP falls below 13V during OTP (See Datasheet)", 15 SDA (io) "I2C Bidirectional Data Pin. Tie to GND or VIN if unused", 16 SCL (in) "I2C Clock Pin. Tie to GND or VIN if unused.", 17 EP (power) "Ground Pin. Tie to a local ground plane. Proper PCB layout is required to achieve advertised performance; see the Applications Information section for more information."